# Altium schematic symbol library CONN A30605-ND 8 Lead.SchLib: 1 symbol
Pins are listed as number, name and electrical type; pins without a type are passive.

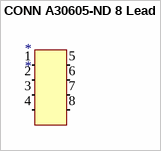
[diagram p0: symbol CONN A30605-ND 8 Lead]

## CONN A30605-ND 8 Lead
designator *
pins: 1 (in), 2 (in), 3 (in), 4 (in), 5 (in), 6 (in), 7 (in), 8 (in)